# Altium footprint library PCB2.PcbLib: 12 footprints
Each footprint in its own frame and in the unit in brackets; x right, y up, seen from the top. Pads: shape width x height; smd on the part's side, far side on the other; paste and mask are expansions set on the pad; w line width, h text height; cw(c..) or ccw(c..) is an arc to the next point about the centre after c.
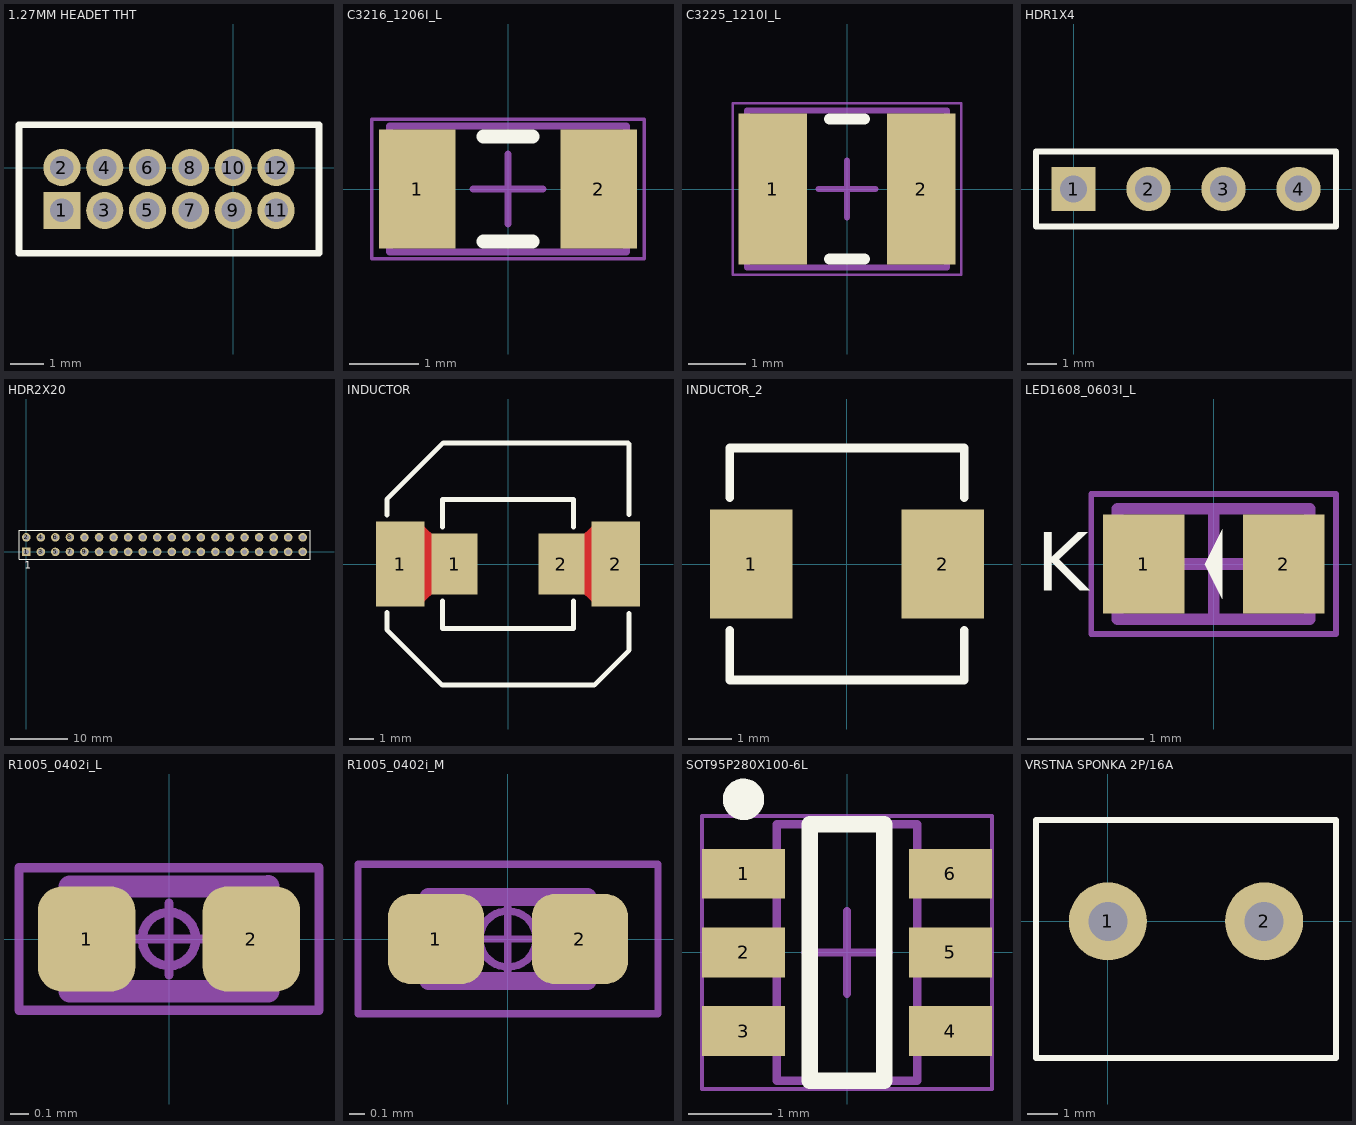
[diagram p0: the footprints below, top view; thin cyan lines are the x and y axes]

## 1.27MM HEADET THT [mm]
pads (12):
  rect 1.1x1.1 hole 0.7: 1(-5.08,-1.27)
  round 1.1 hole 0.7: 2(-5.08,0) 3(-3.81,-1.27) 4(-3.81,0) 5(-2.54,-1.27) 6(-2.54,0) 7(-1.27,-1.27) 8(-1.27,0) 9(0,-1.27) 10(0,0) 11(1.27,-1.27) 12(1.27,0)
Top Overlay:
  lines w0.2: -6.35,-2.54 2.54,-2.54 2.54,1.27 -6.35,1.27 -6.35,-2.54

## C3216_1206I_L [mm]
pads (2):
  rect 1.1x1.7 smd: 1(-1.3,0) 2(1.3,0)
Top Overlay:
  lines w0.2: -0.35,-0.75 0.35,-0.75 ; -0.35,0.75 0.35,0.75
Mechanical 13:
  lines w0.1: -1.7,-0.9 -1.7,0.9 1.7,0.9 1.7,-0.9 -1.7,-0.9
Mechanical 15:
  lines w0.05: -1.95,-1 -1.95,1 1.95,1 1.95,-1 -1.95,-1
  lines w0.1: -0.5,0 0.5,0 ; 0,-0.5 0,0.5
Mechanical 17:
  text ".Designator" at 0,0 h1.2
3D body "C1206(3216)_L.step": height 1.8, standoff 0, extent -1.7,-0.9 1.7,0.9

## C3225_1210I_L [mm]
pads (2):
  rect 1.2x2.65 smd: 1(-1.3,0) 2(1.3,0)
Top Overlay:
  lines w0.2: -0.3,-1.225 0.3,-1.225 ; -0.3,1.225 0.3,1.225
Mechanical 13:
  lines w0.1: -1.75,-1.375 1.75,-1.375 1.75,1.375 -1.75,1.375 -1.75,-1.375
Mechanical 15:
  lines w0.05: -2,-1.5 2,-1.5 2,1.5 -2,1.5 -2,-1.5
  lines w0.1: -0.5,0 0.5,0 ; 0,-0.5 0,0.5
Mechanical 17:
  text ".Designator" at 0,0 h1.2
3D body "C1210(3225)_L.step": height 2.8, standoff 0, extent -1.75,-1.375 1.75,1.375

## HDR1X4 [mm]
pads (4):
  rect 1.5x1.5 hole 0.9: 1(0,0)
  round 1.5 hole 0.9: 2(2.54,0) 3(5.08,0) 4(7.62,0)
Top Overlay:
  lines w0.2: -1.27,-1.27 8.89,-1.27 8.89,1.27 -1.27,1.27 -1.27,-1.27

## HDR2X20 [mm]
pads (40):
  rect 1.5x1.5 hole 0.9: 1(0,0)
  round 1.5 hole 0.9: 2(0,2.54) 3(2.54,0) 4(2.54,2.54) 5(5.08,0) 6(5.08,2.54) 7(7.62,0) 8(7.62,2.54) 9(10.16,0) 10(10.16,2.54) 11(12.7,0) 12(12.7,2.54) 13(15.24,0) 14(15.24,2.54) 15(17.78,0) 16(17.78,2.54) 17(20.32,0) 18(20.32,2.54) 19(22.86,0) 20(22.86,2.54) 21(25.4,0) 22(25.4,2.54) 23(27.94,0) 24(27.94,2.54) 25(30.48,0) 26(30.48,2.54) 27(33.02,0) 28(33.02,2.54) 29(35.56,0) 30(35.56,2.54) 31(38.1,0) 32(38.1,2.54) 33(40.64,0) 34(40.64,2.54) 35(43.18,0) 36(43.18,2.54) 37(45.72,0) 38(45.72,2.54) 39(48.26,0) 40(48.26,2.54)
Top Overlay:
  lines w0.2: -1.27,-1.27 -1.27,3.81 49.53,3.81 49.53,-1.27 -1.27,-1.27
  text "1" at -0.27,-2.93 h1.27

## INDUCTOR [mm]
pads (4):
  rect 2x3.5 smd: 1(-4.445,0) 2(4.445,0)
  rect 1.9x2.5 smd: 1(-2.2,0) 2(2.2,0)
Top Layer:
  region: 3.556,-1.651 2.921,-1.016 2.921,1.016 3.556,1.651
  region: -1.143,1.778
  region: -3.556,1.651 -2.921,1.016 -2.921,-1.016 -3.556,-1.651
Top Overlay:
  lines w0.2: -5,-1.996 -5,-2.713 -2.713,-5 3.556,-5 5,-3.556 5,-2.032 ; -5,2.024 -5,2.667 -2.667,5 4.953,5 5,4.953 5,2.032 ; -2.7,-1.524 -2.7,-2.667 2.7,-2.667 2.7,-1.524 ; -2.7,1.524 -2.7,2.667 2.7,2.667 2.7,1.524

## INDUCTOR_2 [mm]
pads (2):
  rect 1.9x2.5 smd: 1(-2.2,0) 2(2.2,0)
Top Layer:
  region: -1.143,1.778
Top Overlay:
  lines w0.2: -2.7,-1.524 -2.7,-2.667 2.7,-2.667 2.7,-1.524 ; -2.7,1.524 -2.7,2.667 2.7,2.667 2.7,1.524

## LED1608_0603I_L [mm]
pads (2):
  rect 0.7x0.85 smd: 1(-0.6,0) 2(0.6,0)
Top Overlay:
  region: 0.075,0.3 -0.075,0 0.075,-0.3
  text "K" at -1.524,-0.229 h0.5
Mechanical 13:
  lines w0.1: -0.825,-0.475 -0.825,0.475 0.825,0.475 0.825,-0.475 -0.825,-0.475
Mechanical 15:
  lines w0.05: -1.05,-0.6 -1.05,0.6 1.05,0.6 1.05,-0.6 -1.05,-0.6
  lines w0.1: -0.475,0 0.475,0 ; 0,-0.475 0,0.475
Mechanical 17:
  text ".Designator" at 0,0 h1.2
3D body "STEP-WL-SMCW-0603-rev1.stp": height 0.7, standoff 0, extent -0.8,-0.4 0.8,0.4

## R1005_0402i_L [mm]
pads (2):
  rrect50% 0.52x0.56 smd: 1(-0.44,0) 2(0.44,0)
Mechanical 13:
  lines w0.025: -0.5,-0.25 0.5,-0.25 0.5,0.25 -0.5,0.25 -0.5,-0.25
Mechanical 15:
  circle w0.05: c0,0 r0.142
  lines w0.05: -0.19,0 0.19,0 ; 0,-0.19 0,0.19 ; -0.8,-0.38 0.8,-0.38 0.8,0.38 -0.8,0.38 -0.8,-0.38
Mechanical 17:
  text ".Designator" at 0,0 h0.5
Mechanical 19:
  lines w0.025: -0.5,-0.25 -0.5,0.25 -0.25,0.25 -0.25,-0.25 -0.5,-0.25 ; 0.25,-0.25 0.5,-0.25 0.5,0.25 0.25,0.25 0.25,-0.25
Mechanical 21:
  lines w0.12: -0.53,-0.28 0.53,-0.28 0.53,0.28 -0.53,0.28 -0.53,-0.28
3D body "R1005_0402i_L.STEP": height 0.4, standoff 0, extent -0.5,-0.25 0.5,0.25

## R1005_0402i_M [mm]
pads (2):
  rrect50% 0.64x0.6 smd: 1(-0.48,0) 2(0.48,0)
Mechanical 13:
  lines w0.025: -0.5,-0.25 -0.5,0.25 0.5,0.25 0.5,-0.25 -0.5,-0.25
Mechanical 15:
  circle w0.05: c0,0 r0.188
  lines w0.05: -0.25,0 0.25,0 ; 0,-0.25 0,0.25 ; -1,-0.5 -1,0.5 1,0.5 1,-0.5 -1,-0.5
Mechanical 17:
  text ".Designator" at 0,0 h0.5
Mechanical 19:
  lines w0.025: -0.5,-0.25 -0.25,-0.25 -0.25,0.25 -0.5,0.25 -0.5,-0.25 ; 0.25,-0.25 0.25,0.25 0.5,0.25 0.5,-0.25 0.25,-0.25
Mechanical 21:
  lines w0.12: -0.53,-0.28 -0.53,0.28 0.53,0.28 0.53,-0.28 -0.53,-0.28
3D body "R1005_0402i_M.STEP": height 0.4, standoff 0, extent -0.5,-0.25 0.5,0.25

## SOT95P280X100-6L [mm]
pads (6):
  rect 1x0.6 smd: 1(-1.25,0.95) 2(-1.25,0) 3(-1.25,-0.95) 4(1.25,-0.95) 5(1.25,0) 6(1.25,0.95)
Top Overlay:
  circle w0.25: c-1.25,1.85 r0.125
  lines w0.2: -0.45,-1.55 0.45,-1.55 0.45,1.55 -0.45,1.55 -0.45,-1.55
Mechanical 13:
  lines w0.1: -0.85,-1.55 -0.85,1.55 0.85,1.55 0.85,-1.55 -0.85,-1.55
Mechanical 15:
  lines w0.05: -1.75,-1.65 -1.75,1.65 1.75,1.65 1.75,-1.65 -1.75,-1.65
  lines w0.1: -0.5,0 0.5,0 ; 0,-0.5 0,0.5
3D body: height 1, standoff 0, extent -1.5,-1.55 1.5,1.55

## VRSTNA SPONKA 2P/16A [mm]
pads (2):
  round 2.54 hole 1.27: 1(0,0) 2(5.08,0)
Top Overlay:
  lines w0.2: -2.337,-4.445 7.417,-4.445 7.417,3.302 -2.337,3.302 -2.337,-4.445
3D body "User Library-TB2.STEP": height 10.01, standoff -3.49, extent -2.46,-4.571 7.54,3.429